# Altium footprint library BC-2001.PcbLib: 1 footprints
Each footprint in its own frame and in the unit in brackets; x right, y up, seen from the top. Pads: shape width x height; smd on the part's side, far side on the other; paste and mask are expansions set on the pad; w line width, h text height; cw(c..) or ccw(c..) is an arc to the next point about the centre after c.
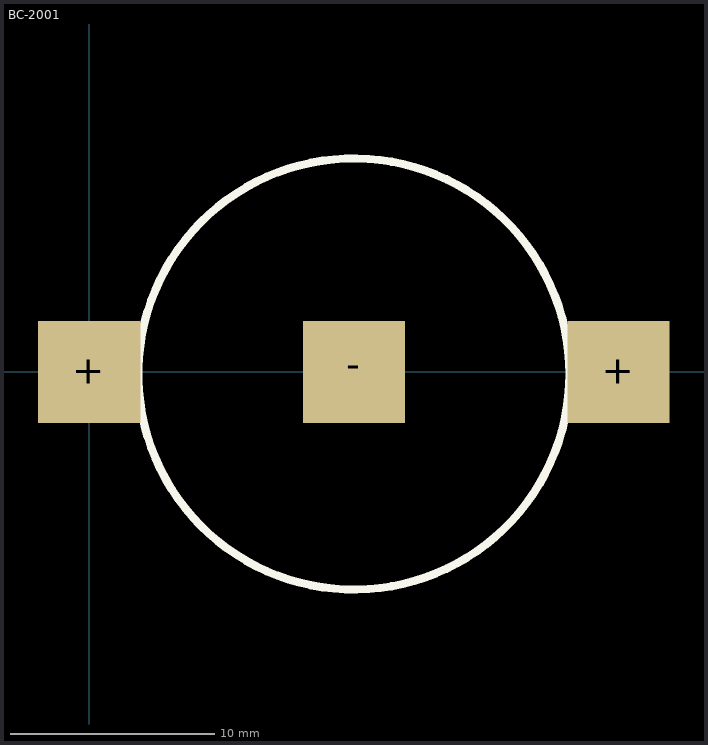
[diagram p0: the footprint, top view; thin cyan lines are the x and y axes]

## BC-2001 [mm]
height 2
pads (3):
  rect 5x5 smd paste-25.4 mask-25.4: +(0,0) -(12.95,0)
  rect 5x5 smd mask-25.4: +(25.9,0)
Top Overlay:
  circle w0.4: c12.95,-0.1 r10.55
Top Paste:
  region: -2.616,-2.642 2.642,-2.642 2.642,2.616 -2.616,2.616
  region: 23.241,-2.616 28.499,-2.616 28.499,2.642 23.241,2.642
  region: 10.325,-2.591 15.583,-2.591 15.583,2.667 10.325,2.667
Top Solder:
  region: -2.616,-2.667 2.667,-2.667 2.667,2.616 -2.616,2.616
  region: 23.241,-2.642 28.524,-2.642 28.524,2.642 23.241,2.642
  region: 10.312,-2.616 15.596,-2.616 15.596,2.667 10.312,2.667
3D body "Battery CR2032.stp": height 3.17, standoff -0.01, extent 2.943,-10.007 22.958,10.008